# EAGLE library part HEADER-10P (library Deegou_Connector)
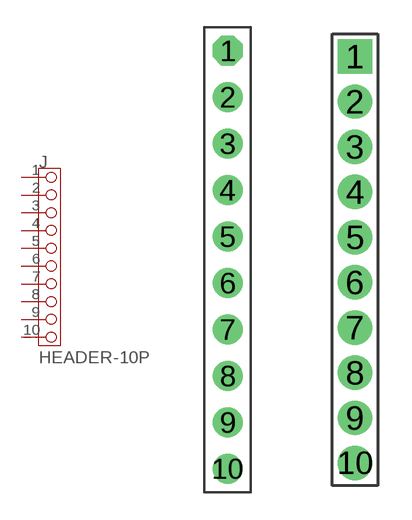
[diagram p14: symbol with the pads of 10P-2.54; footprints 10P-2.54, 10P-2.0]

Designator prefix J

## HEADER-10P-2.54  [10P-2.54]
1  1
2  2
3  3
4  4
5  5
6  6
7  7
8  8
9  9
10  10

## HEADER-10P-2.0  [10P-2.0]
Pads as for 10P-2.54

## HEADER-10P-2.54-SMD  [10P-2.54-SMD]
Pads as for 10P-2.54

## HEADER-10P-5.08  [10P-SCREW-5.08]
Pads as for 10P-2.54

## Footprint 10P-2.54 (pad centres in mm)
drill 0.889 pad 1.651 octagon: 1 0,11.43
drill 0.889 pad 1.651: 2 0,8.89; 3 0,6.35; 4 0,3.81; 5 0,1.27; 6 0,-1.27; 7 0,-3.81; 8 0,-6.35; 9 0,-8.89; 10 0,-11.43

## Footprint 10P-2.0 (pad centres in mm)
drill 0.813 pad 1.524 square: 1 0,9
drill 0.813 pad 1.524: 2 0,7; 3 0,5; 4 0,3; 5 0,1; 6 0,-1; 7 0,-3; 8 0,-5; 9 0,-7; 10 0,-9

## Footprint 10P-2.54-SMD (pad centres in mm)
smd 3.048 x 1.524: 1 -0.635,11.43; 2 1.905,8.89; 3 -0.635,6.35; 4 1.905,3.81; 5 -0.635,1.27; 6 1.905,-1.27; 7 -0.635,-3.81; 8 1.905,-6.35; 9 -0.635,-8.89; 10 1.905,-11.43

## Footprint 10P-SCREW-5.08 (pad centres in mm)
drill 1.4 pad 2.54: 1 -22.86,0; 2 -17.78,0; 3 -12.7,0; 4 -7.62,0; 5 -2.54,0; 6 2.54,0; 7 7.62,0; 8 12.7,0; 9 17.78,0; 10 22.86,0